# Altium footprint library Connectors.PcbLib: 14 footprints
Each footprint in its own frame and in the unit in brackets; x right, y up, seen from the top. Pads: shape width x height; smd on the part's side, far side on the other; paste and mask are expansions set on the pad; w line width, h text height; cw(c..) or ccw(c..) is an arc to the next point about the centre after c.
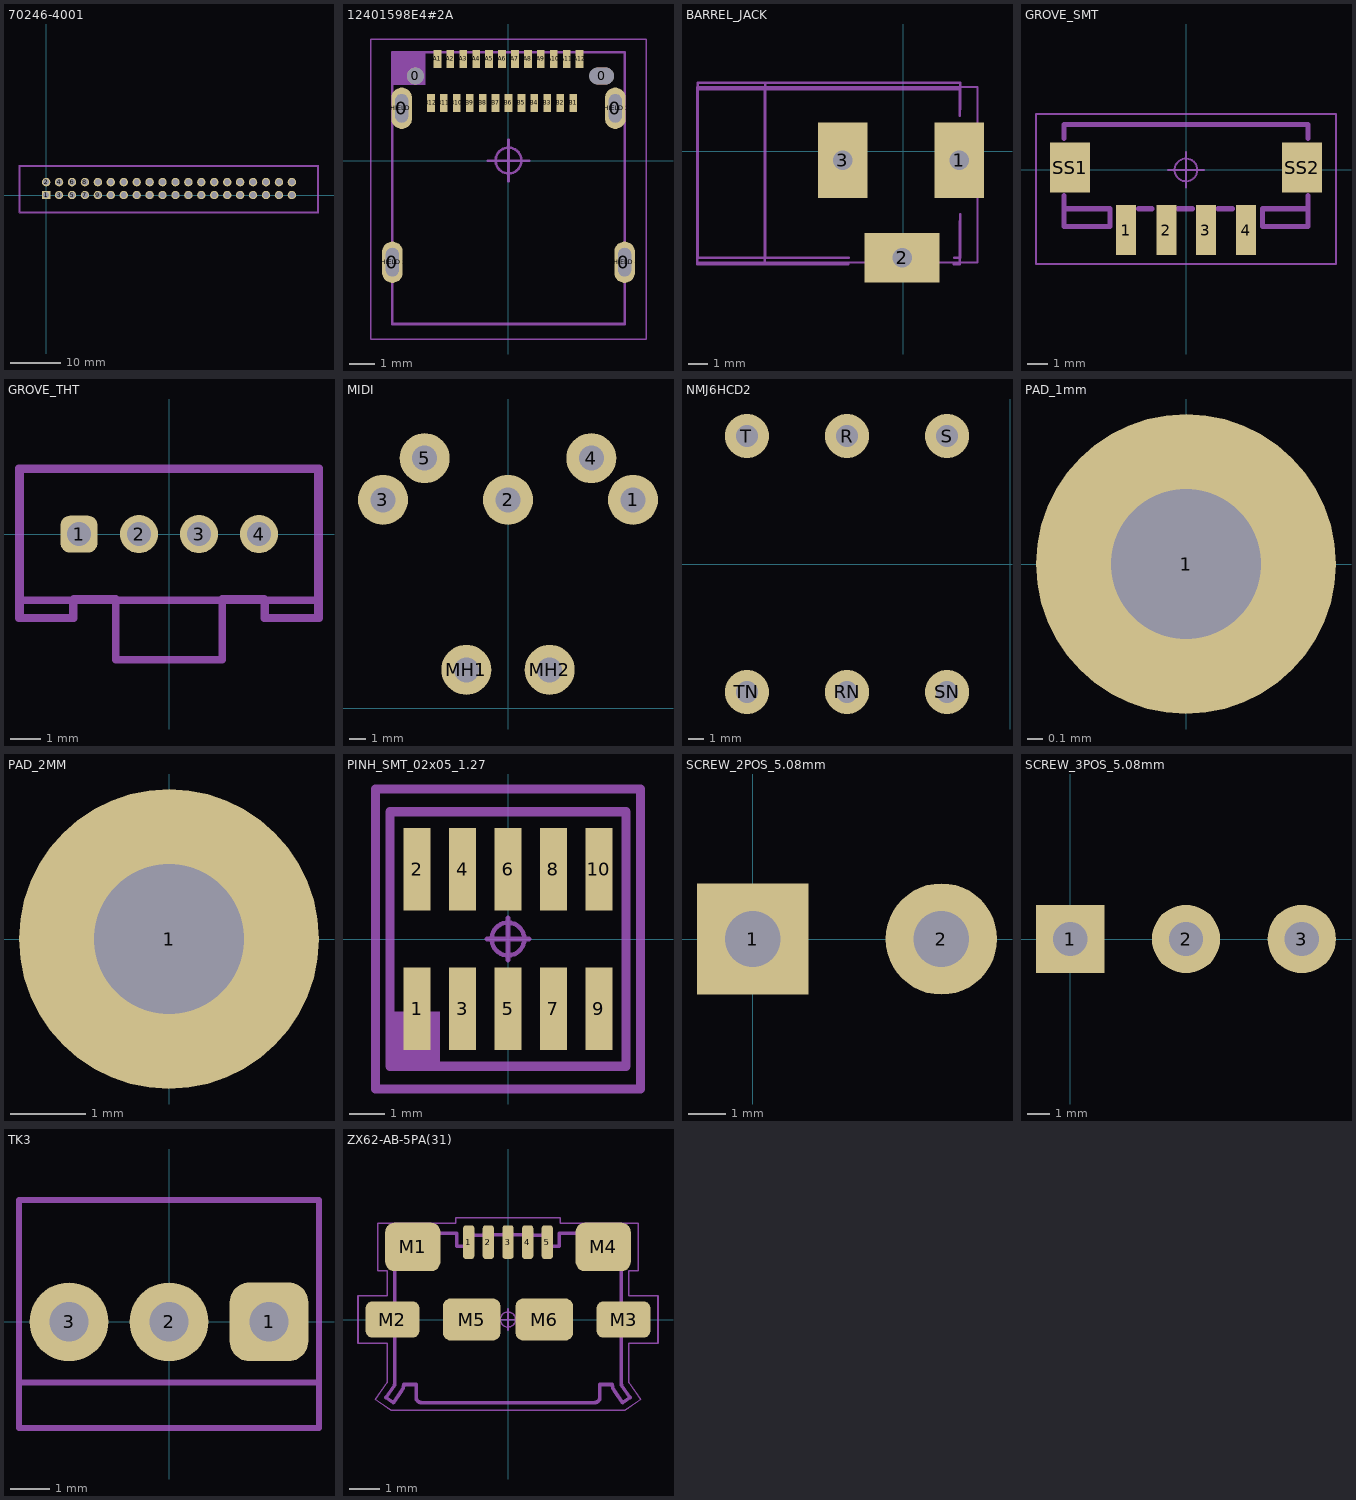
[diagram p0: the footprints below, top view; thin cyan lines are the x and y axes]

## 70246-4001 [mm] "70246-4001"
pads (40):
  rect 1.65x1.65 hole 1.14: 1(0,0)
  round 1.65 hole 1.14: 2(0,2.54) 3(2.54,0) 4(2.54,2.54) 5(5.08,0) 6(5.08,2.54) 7(7.62,0) 8(7.62,2.54) 9(10.16,0) 10(10.16,2.54) 11(12.7,0) 12(12.7,2.54) 13(15.24,0) 14(15.24,2.54) 15(17.78,0) 16(17.78,2.54) 17(20.32,0) 18(20.32,2.54) 19(22.86,0) 20(22.86,2.54) 21(25.4,0) 22(25.4,2.54) 23(27.94,0) 24(27.94,2.54) 25(30.48,0) 26(30.48,2.54) 27(33.02,0) 28(33.02,2.54) 29(35.56,0) 30(35.56,2.54) 31(38.1,0) 32(38.1,2.54) 33(40.64,0) 34(40.64,2.54) 35(43.18,0) 36(43.18,2.54) 37(45.72,0) 38(45.72,2.54) 39(48.26,0) 40(48.26,2.54)
Top Courtyard:
  lines w0.05: -5.33,-3.51 -5.33,5.88 53.59,5.88 53.59,-3.51 -5.33,-3.51
Top Assembly:
  lines w0.1: -5.08,-3.26 -5.08,5.63 53.34,5.63 53.34,-3.26 -5.08,-3.26
3D body "70246-4001.stp": height 9.22, standoff -3.47, extent -5.21,-3.195 53.21,5.695

## 12401598E4#2A [mm] "12401598E4#2A"
pads (34):
  oval 1x1.8 on Top Paste: 0(-4.499,-3.932) 0(-4.131,2.023) 0(4.131,2.026) 0(4.461,-3.925)
  round 0.65 hole 0.65 unplated mask+0.05: 0(-3.6,3.27)
  oval 0.95x0.65 hole 0.65 slot 0.95 at 0 deg unplated mask+0: 0(3.6,3.27)
  rect 0.3x0.7 smd mask+0.04: A1(-2.75,3.93) A2(-2.25,3.93) A3(-1.75,3.93) A4(-1.25,3.93) A5(-0.75,3.93) A6(-0.25,3.93) A7(0.25,3.93) A8(0.75,3.93) A9(1.25,3.93) A10(1.75,3.93) A11(2.25,3.93) A12(2.75,3.93) B1(2.5,2.23) B2(2,2.23) B3(1.5,2.23) B4(1,2.23) B5(0.5,2.23) B6(0,2.23) B7(-0.5,2.23) B8(-1,2.23) B9(-1.5,2.23) B10(-2,2.23) B11(-2.5,2.23) B12(-3,2.23)
  oval 0.8x1.6 hole 0.5 slot 1.1 at 90 deg: "SHIELD 1"(-4.13,2.02) "SHIELD 2"(4.13,2.02) "SHIELD 3"(-4.49,-3.93) "SHIELD 4"(4.49,-3.93)
Mechanical 13:
  rectangle: -4.47,2.93 -3.2,4.2
  lines w0.1: -4.5,-6.32 -4.5,4.18 4.5,4.18 4.5,-6.32 -4.5,-6.32
Mechanical 15:
  circle w0.1: c0,0 r0.5
  lines w0.05: -5.334,-6.9 5.334,-6.9 5.334,4.7 -5.334,4.7 -5.334,2.975 -5.334,-6.9
  lines w0.1: -0.8,0 0,0 ; 0,-0.8 0,0 ; 0,0.8 0,0 ; 0.8,0 0,0
3D body "User Library-12401598E4_2A.STEP": height 3.3, standoff -2.08, extent -4.6,-6.3 4.6,4.25

## BARREL_JACK [mil] "BARREL_JACK"
pads (3):
  rect 100x152.48 hole 39.37 square: 1(113,-18) 3(-123,-18)
  rect 152.48x100 hole 39.37 square: 2(-2.74,-214.7)
Mechanical 13:
  lines w1.97: -417.17,-224.33 -204.57,-224.33 ; -62.83,130 149.76,130
  lines w3.94: -417.17,-224.33 149.76,-224.33 149.76,130 -417.17,130 -417.17,-224.33
Mechanical 15:
  lines w3.94: -153.39,-47.16 -114.02,-47.16 ; -133.7,-66.85 -133.7,-27.48
  lines w5: -280,-227 -280,126 ; -279,-213.7 -279,139.3 ; -111,-228 -417,-228 -417,126 -280,126 ; -110,-214.7 -416,-214.7 -416,139.3 -279,139.3 ; 101.5,-228 114,-228 114,-140.5 ; 102.5,-214.7 115,-214.7 115,-127.2 ; 114,72 114,126 -280,126 ; 115,85.3 115,139.3 -279,139.3
3D body: height 50, standoff 0, extent 84.74,-17.96 145.26,42.56
3D body: height 50, standoff 0, extent 84.74,-77.96 145.26,-17.44
3D body: height 50, standoff 0, extent -151.26,-17.96 -90.74,42.56
3D body: height 50, standoff 0, extent -151.26,-77.96 -90.74,-17.44
3D body: height 50, standoff 0, extent -63.26,-244.96 -2.74,-184.44
3D body: height 50, standoff 0, extent -3.26,-244.96 57.26,-184.44
3D body: height 50, standoff 0, extent -151,-47.7 -91,12.3
3D body: height 50, standoff 0, extent 85,-47.7 145,12.3
3D body: height 50, standoff 0, extent -33,-244.7 27,-184.7
3D body "pj-102ah.stp": height 118.11, standoff -452.76, extent -426.93,-230.04 140,140.04

## GROVE_SMT [mm] "GROVE_SMT"
pads (6):
  rect 1.001x2.499 smd: 1(-2.99,-3.008) 2(-0.983,-3.008) 3(0.998,-3.008) 4(3.005,-3.008)
  rect 1.999x2.499 smd: SS1(-5.784,0.116) SS2(5.799,0.116)
Mechanical 13:
  lines w0.254: -6.089,-1.281 -6.089,-1.941 ; -6.089,1.564 -6.089,2.275 6.103,2.275 6.103,1.564 ; -2.38,-1.941 -1.694,-1.941 ; -0.399,-1.941 0.312,-1.941 ; 1.608,-1.941 2.319,-1.941 ; 6.103,-1.281 6.103,-1.941 ; -6.089,-1.941 -3.803,-1.941 -3.803,-2.83 -6.089,-2.83 -6.089,-1.941 ; 6.103,-1.941 3.817,-1.941 3.817,-2.83 6.103,-2.83 6.103,-1.941
Mechanical 15:
  circle w0.1: c0,0 r0.568
  lines w0.1: -0.889,0 0,0 ; 0,-0.889 0,0 ; 0,0.889 0,0 ; 0.889,0 0,0 ; -7.493,-4.699 -7.493,2.794 7.493,2.794 7.493,-4.699 -7.493,-4.699
3D body "Connecteur Grove (SMD).STEP": height 8.01, standoff 0.01, extent -7,-4.214 7,2.286

## GROVE_THT [mm] "GROVE_THT"
pads (6):
  rrect50% 1.23x1.23 hole 0.8: 1(-3,0)
  round 1.27 / inner round 1.524 / far side round 1.27 hole 0.8: 2(-1,0) 3(1,0) 4(3,0)
  round 0 all layers, no hole mask+0.05: SS1(0,0) SS2(0,1)
Mechanical 13:
  lines w0.127: -5,-1 -5,1
  lines w0.254: 5,-1.5 5,1.5 ; -5,-2.2 -5,2.2 5,2.2 5,-2.2 ; -5,-2.2 -3.2,-2.2 ; -5,-2.2 -5,-2.8 -3.2,-2.8 -3.2,-2.2 ; -3.2,-2.2 3.2,-2.2 ; 3.2,-2.2 5,-2.2 ; 3.2,-2.2 3.2,-2.8 5,-2.8 5,-2.2
Mechanical 15:
  lines w0.254: -4.953,-2.794 -4.953,2.159 4.953,2.159 4.953,-2.794 3.175,-2.794 3.175,-2.159 1.778,-2.159 1.778,-4.191 -1.778,-4.191 -1.778,-2.159 -3.175,-2.159 -3.175,-2.794 -4.953,-2.794
3D body "grove-4-pin.STEP": height 8.09, standoff -3.14, extent -5.025,-3.218 5.025,2.032

## MIDI [mm] "MIDI"
pads (7):
  round 3 hole 1.5: 1(7.5,12.5) 2(0,12.5) 3(-7.5,12.5) 4(5,15) 5(-5,15) MH1(-2.5,2.3) MH2(2.5,2.3)
3D body "MIDI-PCB.STEP": height 21, standoff -4, extent -10.6,0 10.6,15.5

## NMJ6HCD2 [mm] "NMJ6HCD2"
pads (6):
  round 2.8 hole 1.4 mask+0.05: R(-10.35,8.115) RN(-10.35,-8.115) S(-4,8.115) SN(-4,-8.115) T(-16.7,8.115) TN(-16.7,-8.115)
3D body "NMJ6HCD2.step": height 15.59, standoff -4, extent -23.58,-9.1 2.95,9.1

## PAD_1mm [mm] "PAD_1mm"
pads (1):
  round 2 hole 1: 1(0,0)

## PAD_2MM [mm] "PAD_2MM"
pads (1):
  round 4 hole 2: 1(0,0)

## PINH_SMT_02x05_1.27 [mm] "PINH_SMT_02x05_1.27"
pads (10):
  rect 0.76x2.3 smd: 1(-2.54,-1.95) 2(-2.54,1.95) 3(-1.27,-1.95) 4(-1.27,1.95) 5(0,-1.95) 6(0,1.95) 7(1.27,-1.95) 8(1.27,1.95) 9(2.54,-1.95) 10(2.54,1.95)
Mechanical 13:
  rectangle: -3.3,-3.556 -1.905,-2.032
  lines w0.254: -3.3,-3.556 3.3,-3.556 3.3,3.556 -3.3,3.556 -3.3,-3.556
Mechanical 15:
  circle w0.127: c0,0 r0.458
  lines w0.127: -0.6,0 0.6,0 ; 0,-0.6 0,0.6
  lines w0.254: -3.7,-4.191 3.7,-4.191 3.7,4.191 -3.7,4.191 -3.7,-4.191
3D body "FTSH-105-01-F-DV.stp": height 5.98, standoff 0.01, extent -3.175,-2.921 3.175,2.921

## SCREW_2POS_5.08mm [mm] "SCREW_2POS_5.08mm"
pads (2):
  rect 3x3 hole 1.5: 1(0,0)
  round 3 hole 1.5: 2(5.08,0)
3D body "DG127-THR-5.08-02P-13-80AH.STEP": height 10.4, standoff -3.7, extent -2.54,-4.1 7.62,4

## SCREW_3POS_5.08mm [mm] "SCREW_3POS_5.08mm"
pads (3):
  rect 3x3 hole 1.5: 1(0,0)
  round 3 hole 1.5: 2(5.08,0) 3(10.16,0)
3D body "DG127-THR-5.08-03P-13-80AH.STEP": height 10.4, standoff -3.7, extent -2.54,-4.1 12.7,4

## TK3 [mm] "TK3"
pads (3):
  rrect50% 2x2 / inner round 1.524 / far side round 1.524 hole 1: 1(2.54,0)
  round 2 / inner round 1.524 / far side round 1.524 hole 1: 2(0,0) 3(-2.54,0)
Mechanical 15:
  lines w0.152: -3.81,-1.54 -3.81,3.1 3.81,3.1 3.81,-1.54 ; -3.81,-1.54 -3.81,-2.7 3.81,-2.7 3.81,-1.54 ; -3.81,-1.54 3.81,-1.54
3D body "Header 3 pin with Lock (0_100in pitch).STEP": height 10.18, standoff -4.04, extent -3.81,-3.1 3.81,3.25

## ZX62-AB-5PA(31) [mm] "ZX62-AB-5PA(31)"
pads (11):
  rrect49% 0.37x1.11 smd paste+0 mask+0: 1(-1.3,2.56) 2(-0.65,2.56) 3(0,2.56) 4(0.65,2.56) 5(1.3,2.56)
  rrect37% 1.825x1.6 smd paste+0 mask+0: M1(-3.147,2.4) M4(3.147,2.4)
  rrect37% 1.78x1.2 smd paste+0 mask+0: M2(-3.82,0) M3(3.82,0)
  rrect37% 1.9x1.4 smd paste+0 mask+0: M5(-1.2,0) M6(1.2,0)
Mechanical 13:
  drawing of 1052 lines, arcs and shapes, not listed
Mechanical 15:
  circle w0.05: c0,0 r0.25
  lines w0.05: -0.35,0 0.35,0 ; 0,-0.35 0,0.35 ; -4.96,-0.785 -4,-0.785 -4,-2.087 -4.384,-2.642 -3.868,-3 3.868,-3 4.384,-2.642 4,-2.087 4,-0.785 4.96,-0.785 4.96,0.785 4,0.785 4,1.615 4.31,1.615 4.31,3.185 1.735,3.185 1.735,3.365 -1.735,3.365 -1.735,3.185 -4.31,3.185 -4.31,1.615 -4,1.615 -4,0.785 -4.96,0.785 -4.96,-0.785
3D body "ZX62-AB-5PA(31).stp": height 2.75, standoff -0.2, extent -4.4,-2.75 4.4,2.85